# Altium footprint library RESC5025X70N.PcbLib: 1 footprints
Each footprint in its own frame and in the unit in brackets; x right, y up, seen from the top. Pads: shape width x height; smd on the part's side, far side on the other; paste and mask are expansions set on the pad; w line width, h text height; cw(c..) or ccw(c..) is an arc to the next point about the centre after c.
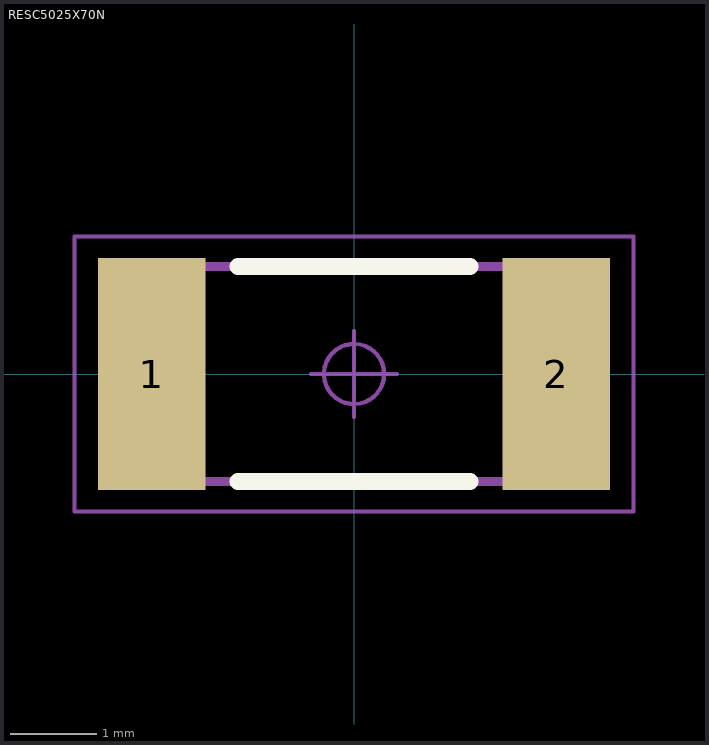
[diagram p0: the footprint, top view; thin cyan lines are the x and y axes]

## RESC5025X70N [mm] "Resistor, Chip; EIA 2010, Metric 5025, 5.00mm L X 2.50mm W X 0.70mm H, IPC Medium Density"
height 0.7
pads (2):
  rect 1.25x2.7 smd: 1(-2.35,0) 2(2.35,0)
Top Overlay:
  lines w0.2: -1.35,-1.25 1.35,-1.25 ; -1.35,1.25 1.35,1.25
Mechanical 14:
  lines w0.1: -2.5,-1.25 2.5,-1.25 2.5,1.25 -2.5,1.25 -2.5,-1.25
Mechanical 15:
  circle w0.05: c0,0 r0.35
  lines w0.05: -0.5,0 0.5,0 ; 0,-0.5 0,0.5 ; -3.25,-1.6 3.25,-1.6 3.25,1.6 -3.25,1.6 -3.25,-1.6
3D body "RESC5025X70N.stp": height 0.7, standoff 0, extent -2.5,-1.25 2.5,1.25